# EAGLE library part K96SENSOR (library 629)
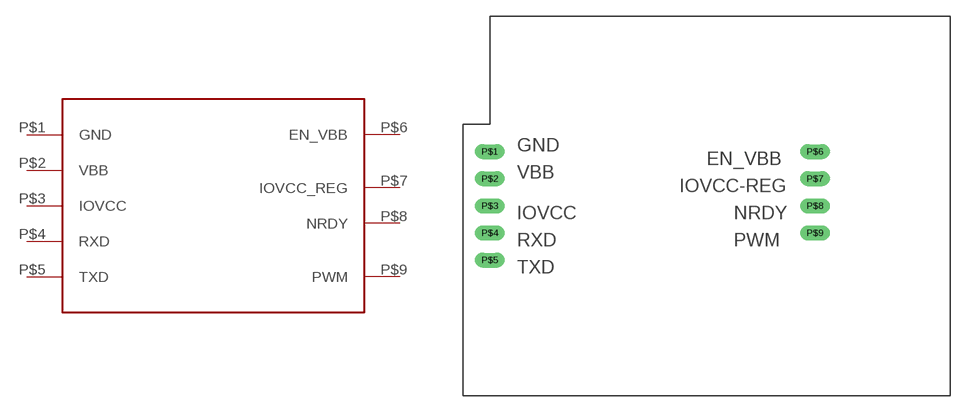
[diagram p1: symbol with the pads of K96SENSOR; footprint K96SENSOR]

Designator prefix -

## K96SENSOR  [K96SENSOR]
P$1  GND
P$2  VBB
P$3  IOVCC
P$4  RXD
P$5  TXD
P$6  EN_VBB
P$7  IOVCC_REG
P$8  NRDY
P$9  PWM

## Footprint K96SENSOR (pad centres in mm)
drill 0.9 pad 1.143 long: P$1 -17.78,-5.08; P$2 -17.78,-7.62; P$3 -17.78,-10.16; P$4 -17.78,-12.7; P$5 -17.78,-15.24; P$6 12.7,-5.08; P$7 12.7,-7.62; P$8 12.7,-10.16; P$9 12.7,-12.7